# Altium schematic symbol library Altium_WE_eiSos_WE-DS Bent 90°.SchLib: 8 symbols
Pins are listed as number, name and electrical type; pins without a type are passive.

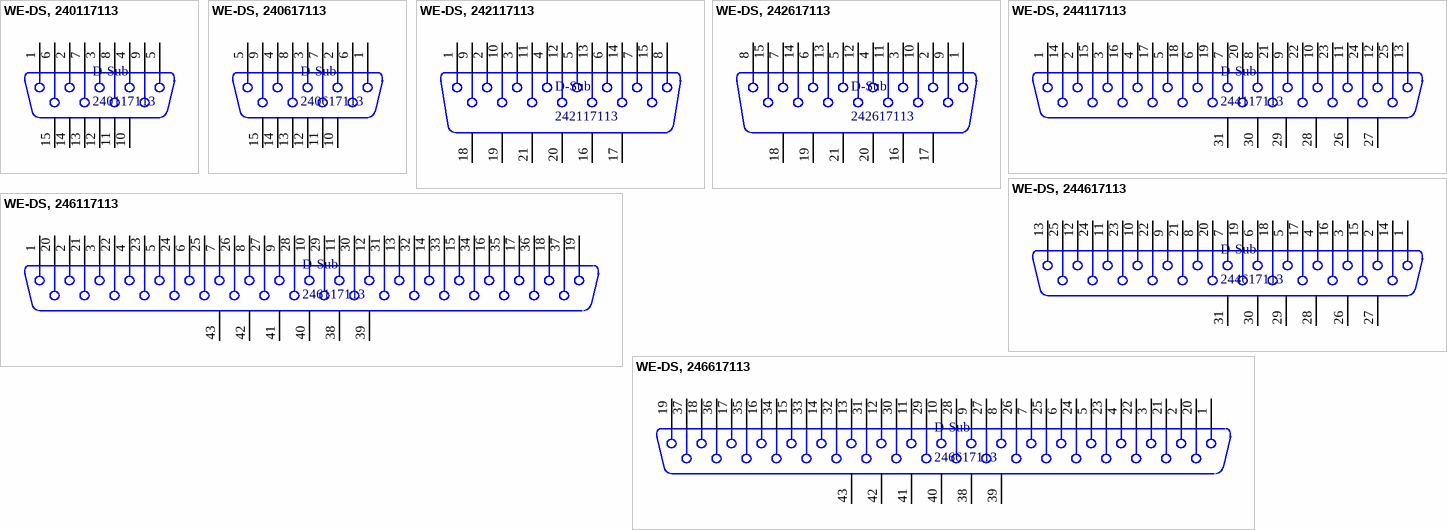
[diagram p0: symbols WE-DS, 240117113 to WE-DS, 246617113]

## WE-DS, 240117113
designator D-Sub, comment 240117113
D-SUB-Filter Connectors WE-DS, Bent 90°,SMT; Manufacturer: Würth Elektronik eiSos GmbH; partNo: 240117113; ComponentLink1Description: Manufacturer; ComponentLink1URL: http://www.we-online.de; Created by: Christin Zierenner; Created Date: May 2012; ComponentLink2Description: Datasheet; ComponentLink2URL: http://katalog.we-online.de/kataloge/eisos/index.php?language=en&pf=Filter_SMD
footprint WE-DS, 240117113 (D-SUB- 9P, MALE, RT ANGLE, SMT)
pins: 1, 2, 3, 4, 5, 6, 7, 8, 9, 10 MH1, 11 MH2, 12 MH3, 13 MH4, 14 MH5, 15 MH6

## WE-DS, 240617113
designator D-Sub, comment 240617113
D-SUB-Filter Connectors WE-DS, Bent 90°,SMT; Manufacturer: Würth Elektronik eiSos GmbH; partNo: 240617113; ComponentLink1Description: Manufacturer; ComponentLink1URL: http://www.we-online.de; Created by: Christin Zierenner; Created Date: May 2012; ComponentLink2Description: Datasheet; ComponentLink2URL: http://katalog.we-online.de/kataloge/eisos/index.php?language=en&pf=Filter_SMD
footprint WE-DS, 240617113 (D-SUB- 9P, FEMALE, RT ANGLE, SMT)
pins: 1, 2, 3, 4, 5, 6, 7, 8, 9, 10 MH1, 11 MH2, 12 MH3, 13 MH4, 14 MH5, 15 MH6

## WE-DS, 242117113
designator D-Sub, comment 242117113
D-SUB-Filter Connectors WE-DS, Bent 90°,SMT; Manufacturer: Würth Elektronik eiSos GmbH; partNo: 242117113; ComponentLink1Description: Manufacturer; ComponentLink1URL: http://www.we-online.de; Created by: Christin Zierenner; Created Date: May 2012; ComponentLink2Description: Datasheet; ComponentLink2URL: http://katalog.we-online.de/kataloge/eisos/index.php?language=en&pf=Filter_SMD
footprint WE-DS, 242117113 (D-SUB- 15P, MALE, RT ANGLE, SMT)
pins: 1, 2, 3, 4, 5, 6, 7, 8, 9, 10, 11, 12, 13, 14, 15, 16 MH1, 17 MH2, 18 MH3, 19 MH4, 20 MH5, 21 MH6

## WE-DS, 242617113
designator D-Sub, comment 242617113
D-SUB-Filter Connectors WE-DS, Bent 90°,SMT; Manufacturer: Würth Elektronik eiSos GmbH; partNo: 242617113; ComponentLink1Description: Manufacturer; ComponentLink1URL: http://www.we-online.de; Created by: Christin Zierenner; Created Date: May 2012; ComponentLink2Description: Datasheet; ComponentLink2URL: http://katalog.we-online.de/kataloge/eisos/index.php?language=en&pf=Filter_SMD
footprint WE-DS, 242617113 (D-SUB- 15P, FEMALE, RT ANGLE, SMT)
pins: 1, 2, 3, 4, 5, 6, 7, 8, 9, 10, 11, 12, 13, 14, 15, 16 MH1, 17 MH2, 18 MH3, 19 MH4, 20 MH5, 21 MH6

## WE-DS, 244117113
designator D-Sub, comment 244117113
D-SUB-Filter Connectors WE-DS, Bent 90°,SMT; Manufacturer: Würth Elektronik eiSos GmbH; partNo: 244117113; ComponentLink1Description: Manufacturer; ComponentLink1URL: http://www.we-online.de; Created by: Christin Zierenner; Created Date: May 2012; ComponentLink2Description: Datasheet; ComponentLink2URL: http://katalog.we-online.de/kataloge/eisos/index.php?language=en&pf=Filter_SMD
footprint WE-DS, 244117113 (D-SUB- 25P, MALE, RT ANGLE, SMT)
pins: 1, 2, 3, 4, 5, 6, 7, 8, 9, 10, 11, 12, 13, 14, 15, 16, 17, 18, 19, 20, 21, 22, 23, 24, 25, 26 MH1, 27 MH2, 28 MH3, 29 MH4, 30 MH5, 31 MH5

## WE-DS, 244617113
designator D-Sub, comment 244617113
D-SUB-Filter Connectors WE-DS, Bent 90°,SMT; Manufacturer: Würth Elektronik eiSos GmbH; partNo: 244617113; ComponentLink1Description: Manufacturer; ComponentLink1URL: http://www.we-online.de; Created by: Christin Zierenner; Created Date: May 2012; ComponentLink2Description: Datasheet; ComponentLink2URL: http://katalog.we-online.de/kataloge/eisos/index.php?language=en&pf=Filter_SMD
footprint WE-DS, 244617113 (D-SUB- 25P, FEMALE, RT ANGLE, SMT)
pins: 1, 2, 3, 4, 5, 6, 7, 8, 9, 10, 11, 12, 13, 14, 15, 16, 17, 18, 19, 20, 21, 22, 23, 24, 25, 26 MH1, 27 MH2, 28 MH3, 29 MH4, 30 MH5, 31 MH5

## WE-DS, 246117113
designator D-Sub, comment 246117113
D-SUB-Filter Connectors WE-DS, Bent 90°,SMT; Manufacturer: Würth Elektronik eiSos GmbH; partNo: 246117113; ComponentLink1Description: Manufacturer; ComponentLink1URL: http://www.we-online.de; Created by: Christin Zierenner; Created Date: May 2012; ComponentLink2Description: Datasheet; ComponentLink2URL: http://katalog.we-online.de/kataloge/eisos/index.php?language=en&pf=Filter_SMD
footprint WE-DS, 246117113 (D-SUB- 37P, MALE, RT ANGLE, SMT)
pins: 1, 2, 3, 4, 5, 6, 7, 8, 9, 10, 11, 12, 13, 14, 15, 16, 17, 18, 19, 20, 21, 22, 23, 24, 25, 26, 27, 28, 29, 30, 31, 32, 33, 34, 35, 36, 37, 38 MH1, 39 MH2, 40 MH3, 41 MH4, 42 MH5, 43 MH5

## WE-DS, 246617113
designator D-Sub, comment 246617113
D-SUB-Filter Connectors WE-DS, Bent 90°,SMT; Manufacturer: Würth Elektronik eiSos GmbH; partNo: 246617113; ComponentLink1Description: Manufacturer; ComponentLink1URL: http://www.we-online.de; Created by: Christin Zierenner; Created Date: May 2012; ComponentLink2Description: Datasheet; ComponentLink2URL: http://katalog.we-online.de/kataloge/eisos/index.php?language=en&pf=Filter_SMD
footprint WE-DS, 246617113 (D-SUB- 37P, FEMALE, RT ANGLE, SMT)
pins: 1, 2, 3, 4, 5, 6, 7, 8, 9, 10, 11, 12, 13, 14, 15, 16, 17, 18, 19, 20, 21, 22, 23, 24, 25, 26, 27, 28, 29, 30, 31, 32, 33, 34, 35, 36, 37, 38 MH1, 39 MH2, 40 MH3, 41 MH4, 42 MH5, 43 MH5